# EAGLE library part USBLC6-4SC6 (library USBLC6-4SC6)
None Check availability <https://pricing.snapeda.com/parts/USBLC6-4SC6/STMicroelectronics/view-part?ref=eda>
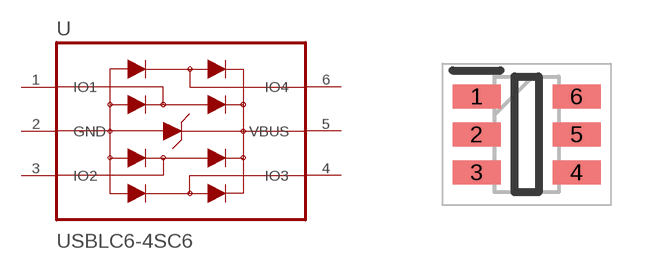
[diagram p0: symbol with the pads of SOT95P280X145-6N; footprint SOT95P280X145-6N]

Designator prefix U

## USBLC6-4SC6 (Availability: In Stock; Check_prices: https://www.snapeda.com/parts/USBLC6-4SC6/STMicroelectronics/view-part/?ref=eda; Description: 17V Clamp 5A (8/20µs) Ipp Tvs Diode Surface Mount SOT-23-6; MF: STMicroelectronics; MP: USBLC6-4SC6; Package: SOT-23-6 STMicroelectronics; Price: None; Purchase-URL: https://www.snapeda.com/api/url_track_click_mouser/?unipart_id=562356&manufacturer=STMicroelectronics&part_name=USBLC6-4SC6&search_term=usblc6-4; SnapEDA_Link: https://www.snapeda.com/parts/USBLC6-4SC6/STMicroelectronics/view-part/?ref=snap)  [SOT95P280X145-6N]
1  IO1
2  GND  pwr
3  IO2
4  IO3
5  VBUS  pwr
6  IO4

## Footprint SOT95P280X145-6N (pad centres in mm)
SOT-23 (6)
smd 1.2 x 0.6: 1 -1.25,0.95; 2 -1.25,0; 3 -1.25,-0.95; 4 1.25,-0.95; 5 1.25,0; 6 1.25,0.95